# EAGLE library part WIFI_AMW136 (library Ilya_Teach)
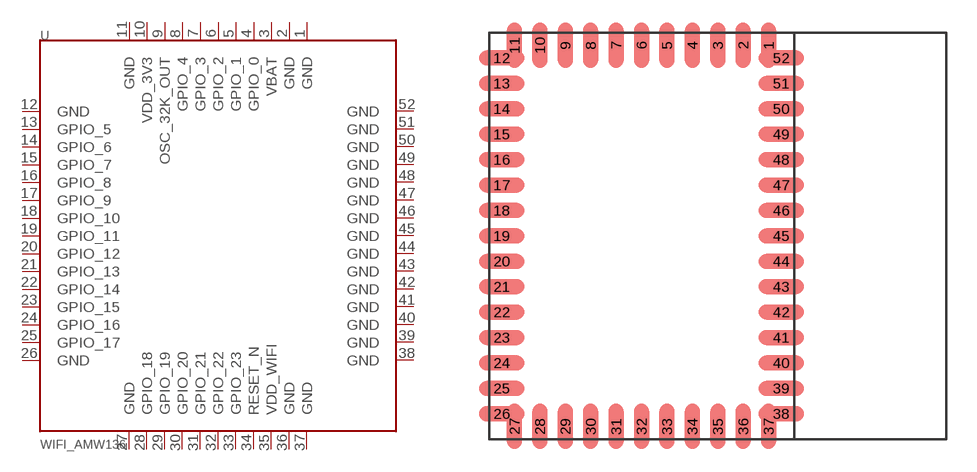
[diagram p16: symbol with the pads of AMW136; footprint AMW136]

Designator prefix -

## WIFI_AMW136  [AMW136]
1  GND
2  GND
3  VBAT
4  GPIO_0
5  GPIO_1
6  GPIO_2
7  GPIO_3
8  GPIO_4
9  OSC_32K_OUT
10  VDD_3V3
11  GND
12  GND
13  GPIO_5
14  GPIO_6
15  GPIO_7
16  GPIO_8
17  GPIO_9
18  GPIO_10
19  GPIO_11
20  GPIO_12
21  GPIO_13
22  GPIO_14
23  GPIO_15
24  GPIO_16
25  GPIO_17
26  GND
27  GND
28  GPIO_18
29  GPIO_19
30  GPIO_20
31  GPIO_21
32  GPIO_22
33  GPIO_23
34  RESET_N
35  VDD_WIFI
36  GND
37  GND
38  GND
39  GND
40  GND
41  GND
42  GND
43  GND
44  GND
45  GND
46  GND
47  GND
48  GND
49  GND
50  GND
51  GND
52  GND

## Footprint AMW136 (pad centres in mm)
smd 0.762 x 2.286: 1 6.35,9.525; 2 5.08,9.525; 3 3.81,9.525; 4 2.54,9.525; 5 1.27,9.525; 6 0,9.525; 7 -1.27,9.525; 8 -2.54,9.525; 9 -3.81,9.525; 10 -5.08,9.525; 11 -6.35,9.525; 27 -6.35,-9.525; 28 -5.08,-9.525; 29 -3.81,-9.525; 30 -2.54,-9.525; 31 -1.27,-9.525; 32 0,-9.525; 33 1.27,-9.525; 34 2.54,-9.525; 35 3.81,-9.525; 36 5.08,-9.525; 37 6.35,-9.525
smd 2.286 x 0.762: 12 -6.985,8.89; 13 -6.985,7.62; 14 -6.985,6.35; 15 -6.985,5.08; 16 -6.985,3.81; 17 -6.985,2.54; 18 -6.985,1.27; 19 -6.985,0; 20 -6.985,-1.27; 21 -6.985,-2.54; 22 -6.985,-3.81; 23 -6.985,-5.08; 24 -6.985,-6.35; 25 -6.985,-7.62; 26 -6.985,-8.89; 38 6.985,-8.89; 39 6.985,-7.62; 40 6.985,-6.35; 41 6.985,-5.08; 42 6.985,-3.81; 43 6.985,-2.54; 44 6.985,-1.27; 45 6.985,0; 46 6.985,1.27; 47 6.985,2.54; 48 6.985,3.81; 49 6.985,5.08; 50 6.985,6.35; 51 6.985,7.62; 52 6.985,8.89